# Altium schematic symbol library DIY-USB Led Controller.SCHLIB: 40 symbols
Pins are listed as number, name and electrical type; pins without a type are passive.

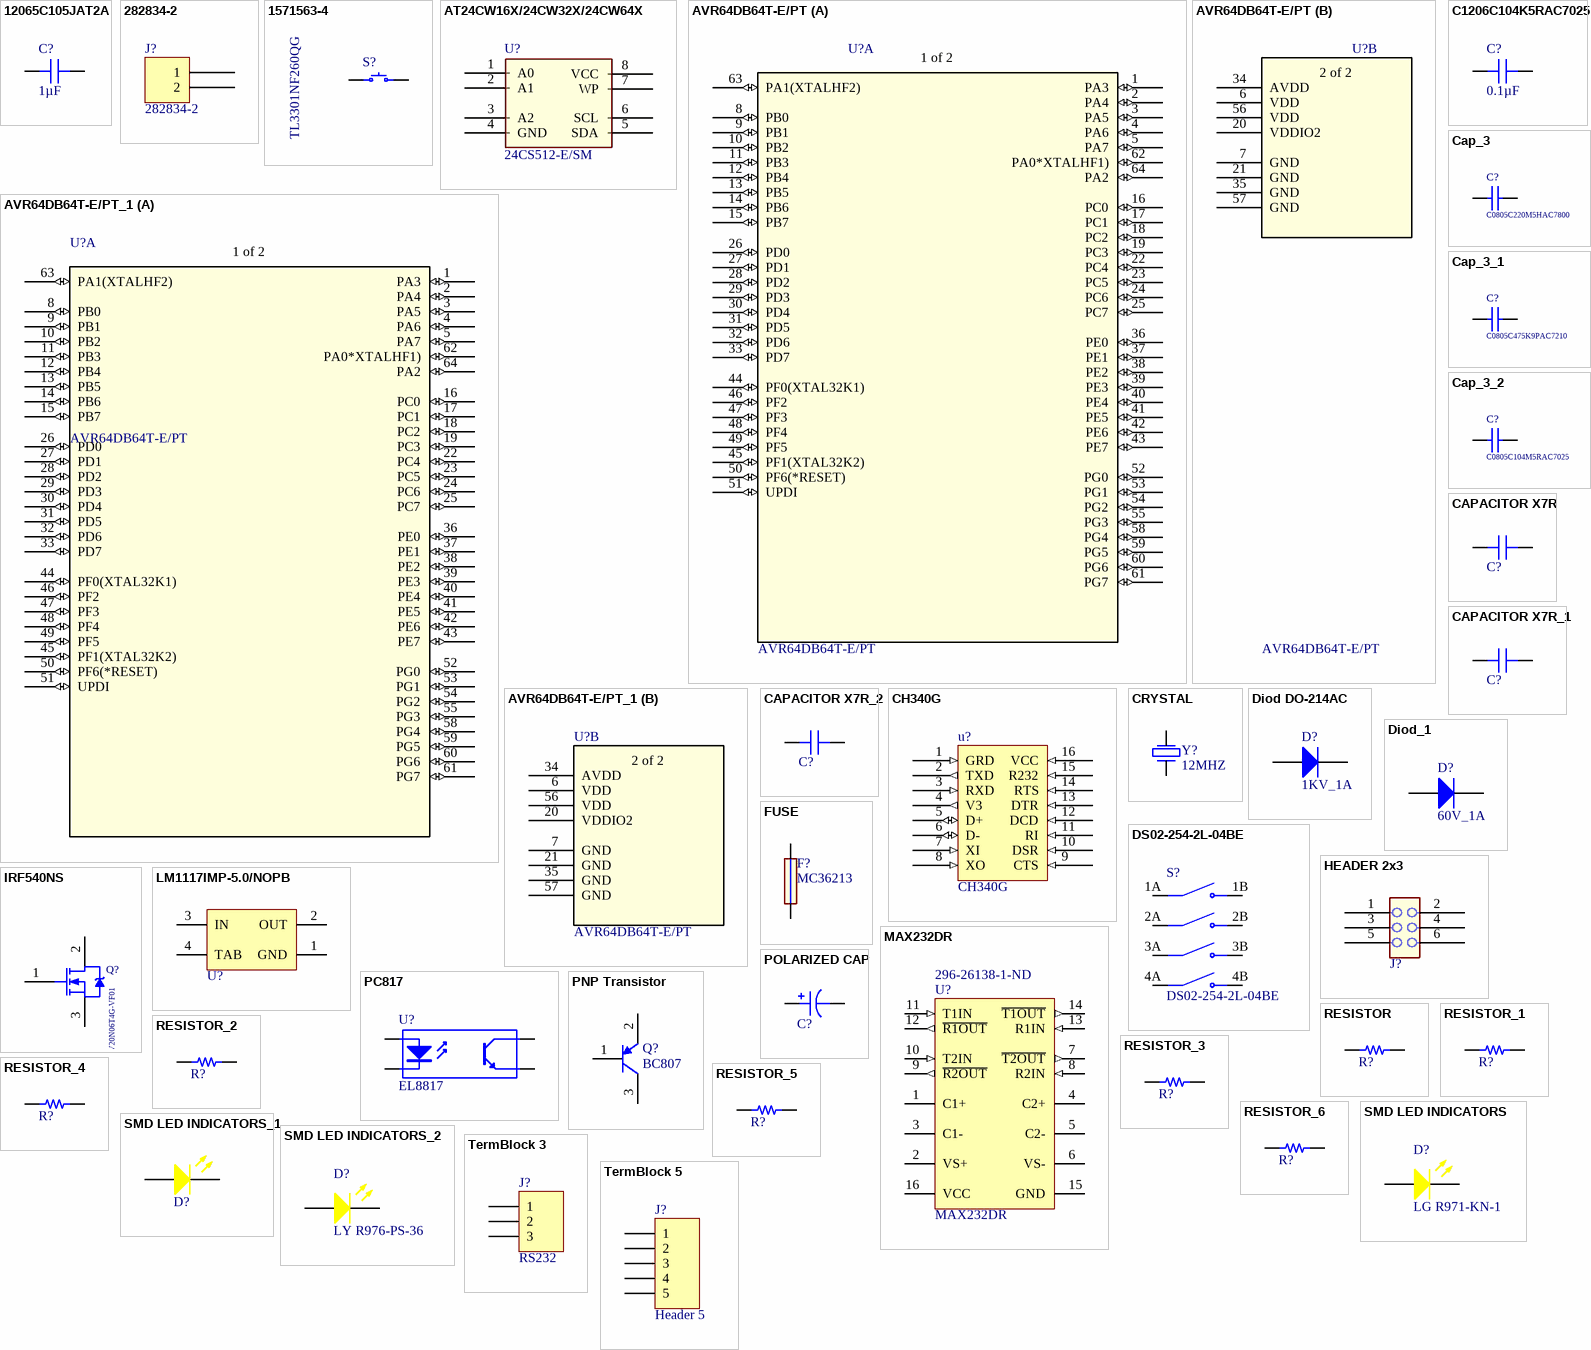
[diagram p0: symbols 12065C105JAT2A to TermBlock 5]

## 12065C105JAT2A
designator C?, comment value 1µF  (hidden comment: C0805C105K5RACAUTO)
1 µF ±10% 50V Ceramic Capacitor X7R 0805 (2012 Metric); Part Number: 12065C105JAT2A; Manufacturer: AVX Corporation; Tolerance: ±5%; Applications: General Purpose; Capacitance: 1µF; ComponentLink1Description: Datasheet; ComponentLink1URL: http://datasheets.avx.com/X7RDielectric.pdf; ComponentLink2Description: DigiKey Link; ComponentLink2URL: http://digikey.com/product-detail/en/avx-corporation/12065C105JAT2A/478-10884-1-ND/7536453; Device Package: 1206 (3216 Metric); LastUpdated: 1/21/2020 12:03:49 AM; Lifecycle Status: Active; Minimum Order: 1; Mounting Type: Surface Mount, MLCC; Operating Temperature: -55°C ~ 125°C; Package / Case: 1206 (3216 Metric); Packaging: TapeAndReel; PartId: 19654; Part Status: Active; Price: 0.15; Series: -; Size / Dimension: 0.126" L x 0.063" W (3.20mm x 1.60mm); Supplier 1: DigiKey; Supplier Part Number 1: 478-10884-1-ND; Temperature Coefficient: X7R; Thickness (Max): 0.070" (1.78mm); Voltage - Rated: 50V
footprint CAP 1206_3216 - 1.8MM
footprint CAP SMD 0805
pins: 1, 2

## 282834-2
designator J?
TERM BLOCK PLUG 2POS STR 5.08MM; Manufacturer: TE Connectivity AMP Connectors; Current: 10A; Mating Orientation: Horizontal with Board; Number of Levels: 1; Pitch: 0.100" (2.54mm); Positions Per Level: 2; Voltage: 150V; Wire Gauge: 16-30 AWG; Wire Termination: Screw - Rising Cage Clamp; Part Number: 282834-2; Color: Green; ComponentLink1Description: Datasheet; ComponentLink1URL: https://www.te.com/commerce/DocumentDelivery/DDEController?Action=srchrtrv&DocNm=282834&DocType=Customer+Drawing&DocLang=English; ComponentLink2Description: DigiKey Link; ComponentLink2URL: http://digikey.com/product-detail/en/te-connectivity-amp-connectors/282834-2/A98333-ND/1150135; LastUpdated: 1/15/2020 4:15:38 AM; Lifecycle Status: Active; Minimum Order: 1; Mounting Type: Through Hole; Packaging: Bulk; Part Status: Active; Price: 0.88; Series: Buchanan; Supplier 1: DigiKey; Supplier Part Number 1: A98333-ND
footprint TE 282834-2
footprint CONN. 2
footprint CONN. 2
pins: 1, 2

## 1571563-4
designator S?, comment TL3301NF260QG
SWITCH TACTILE SPST-NO 0.05A 12V; Part Number: 1571563-4; Manufacturer: TE Connectivity ALCOSWITCH Switches; Actuator Height off PCB, Vertical: 5.00mm; Actuator Orientation: Top Actuated; Actuator Type: Standard; Contact Rating @ Voltage: 0.05A @ 24VDC; Illumination: Non-Illuminated; Operating Force: 260gf; Outline: 6.00mm x 6.00mm; Switch Function: Off-Mom; Circuit: SPST-NO; ComponentLink1Description: Datasheet; ComponentLink1URL: https://www.te.com/commerce/DocumentDelivery/DDEController?Action=srchrtrv&DocNm=1308111-1_SWITCHES_CORE_PROGRAM_CATALOG&DocType=CS&DocLang=English; ComponentLink2Description: DigiKey Link; ComponentLink2URL: http://digikey.com/product-detail/en/te-connectivity-alcoswitch-switches/1571563-4/450-2055-1-ND/4569745; LastUpdated: 2/4/2020 2:40:00 PM; Lifecycle Status: Active; Minimum Order: 1; Mounting Type: Surface Mount; Operating Temperature: -35°C ~ 85°C; Packaging: TapeAndReel; Part Status: Active; Price: 0.16; Series: FSMJSMA; Supplier 1: DigiKey; Supplier Part Number 1: 450-2055-1-ND; Termination Style: Gull Wing
footprint TE FSM4JSMA
footprint AP8-00137
footprint Tactile Switche (SWITCH TACTILE SPST-NO 0.05A 12V  6mm*6mm)
pins: 1, 2, 3, 4

## AT24CW16X/24CW32X/24CW64X
designator U?, comment 24CS512-E/SM
EEPROM Memory IC 512Kb (64K x 8) I²C 3.4 MHz 400 ns 8-SOIJ
footprint 21-0041B_8
pins: 1 A0, 2 A1, 3 A2 (power), 4 GND (power), 5 SDA, 6 SCL, 7 WP, 8 VCC (power)

## AVR64DB64T-E/PT
designator U?
AVR series Microcontroller IC 8-Bit 24MHz 64KB (64K x 8) FLASH 64-TQFP (10x10) /; Mfr_Name: Microchip; Copyright: Copyright (C) 2022 Ultra Librarian. All rights reserved.; Manufacturer_Part_Number: AVR64DB64T-E/PT; RefDes: RefDes; Type: DEV
footprint 64-TQFP (SOIC, 4-Leads, Body 4,60x6,50mm, Pitch 1,27mm, IPC Medium Density)
part A pins: 1 PA3 (io), 2 PA4 (io), 3 PA5 (io), 4 PA6 (io), 5 PA7 (io), 8 PB0 (io), 9 PB1 (io), 10 PB2 (io), 11 PB3 (io), 12 PB4 (io), 13 PB5 (io), 14 PB6 (io), 15 PB7 (io), 16 PC0 (io), 17 PC1 (io), 18 PC2 (io), 19 PC3 (io), 22 PC4 (io), 23 PC5 (io), 24 PC6 (io), 25 PC7 (io), 26 PD0 (io), 27 PD1 (io), 28 PD2 (io), 29 PD3 (io), 30 PD4 (io), 31 PD5 (io), 32 PD6 (io), 33 PD7 (io), 36 PE0 (io), 37 PE1 (io), 38 PE2 (io), 39 PE3 (io), 40 PE4 (io), 41 PE5 (io), 42 PE6 (io), 43 PE7 (io), 44 PF0(XTAL32K1) (io), 45 PF1(XTAL32K2) (io), 46 PF2 (io), 47 PF3 (io), 48 PF4 (io), 49 PF5 (io), 50 PF6(*RESET) (io), 51 UPDI (io), 52 PG0 (io), 53 PG1 (io), 54 PG2 (io), 55 PG3 (io), 58 PG4 (io), 59 PG5 (io), 60 PG6 (io), 61 PG7 (io), 62 PA0*XTALHF1) (io), 63 PA1(XTALHF2) (io), 64 PA2 (io)
part B pins: 6 VDD (power), 7 GND, 20 VDDIO2 (power), 21 GND, 34 AVDD (power), 35 GND, 56 VDD (power), 57 GND
part A text: 1 of 2
part B text: 2 of 2

## AVR64DB64T-E/PT_1
designator U?, comment AVR64DB64T-E/PT
No Description Available; Mfr_Name: Microchip; Copyright: Copyright (C) 2022 Ultra Librarian. All rights reserved.; Manufacturer_Part_Number: AVR64DB64T-E/PT; RefDes: RefDes; Type: DEV
footprint 64-TQFP (SOIC, 4-Leads, Body 4,60x6,50mm, Pitch 1,27mm, IPC Medium Density)
part A pins: 1 PA3 (io), 2 PA4 (io), 3 PA5 (io), 4 PA6 (io), 5 PA7 (io), 8 PB0 (io), 9 PB1 (io), 10 PB2 (io), 11 PB3 (io), 12 PB4 (io), 13 PB5 (io), 14 PB6 (io), 15 PB7 (io), 16 PC0 (io), 17 PC1 (io), 18 PC2 (io), 19 PC3 (io), 22 PC4 (io), 23 PC5 (io), 24 PC6 (io), 25 PC7 (io), 26 PD0 (io), 27 PD1 (io), 28 PD2 (io), 29 PD3 (io), 30 PD4 (io), 31 PD5 (io), 32 PD6 (io), 33 PD7 (io), 36 PE0 (io), 37 PE1 (io), 38 PE2 (io), 39 PE3 (io), 40 PE4 (io), 41 PE5 (io), 42 PE6 (io), 43 PE7 (io), 44 PF0(XTAL32K1) (io), 45 PF1(XTAL32K2) (io), 46 PF2 (io), 47 PF3 (io), 48 PF4 (io), 49 PF5 (io), 50 PF6(*RESET) (io), 51 UPDI (io), 52 PG0 (io), 53 PG1 (io), 54 PG2 (io), 55 PG3 (io), 58 PG4 (io), 59 PG5 (io), 60 PG6 (io), 61 PG7 (io), 62 PA0*XTALHF1) (io), 63 PA1(XTALHF2) (io), 64 PA2 (io)
part B pins: 6 VDD (power), 7 GND, 20 VDDIO2 (power), 21 GND, 34 AVDD (power), 35 GND, 56 VDD (power), 57 GND
part A text: 1 of 2
part B text: 2 of 2

## C1206C104K5RAC7025
designator C?, comment value 0.1µF  (hidden comment: C0805C104M5RAC7025)
0.1 µF ±20% 50V Ceramic Capacitor X7R 0805 (2012 Metric); Part Number: C1206C104K5RAC7025; Manufacturer: KEMET; Tolerance: ±10%; Applications: Bypass, Decoupling; Capacitance: 0.1µF; ComponentLink1Description: Datasheet; ComponentLink1URL: https://api.kemet.com/component-edge/download/datasheet/C1206C104K5RAC7025.pdf; ComponentLink2Description: DigiKey Link; ComponentLink2URL: http://digikey.com/product-detail/en/kemet/C1206C104K5RAC7025/399-7356-1-ND/5322076; Device Package: 1206 (3216 Metric); LastUpdated: 1/21/2020 12:03:23 AM; Lifecycle Status: Active; Minimum Order: 1; Mounting Type: Surface Mount, MLCC; Operating Temperature: -55°C ~ 125°C; Package / Case: 1206 (3216 Metric); Packaging: TapeAndReel; PartId: 18895; Part Status: Active; Price: 0.02; Series: SMD Comm X7R; Size / Dimension: 0.126" L x 0.063" W (3.20mm x 1.60mm); Supplier 1: DigiKey; Supplier Part Number 1: 399-7356-1-ND; Temperature Coefficient: X7R; Thickness (Max): 0.035" (0.88mm); Voltage - Rated: 50V
footprint CAP 1206_3216 - 1.0MM
footprint CAP SMD 0805
pins: 1, 2

## Cap_3
designator C?, comment C0805C220M5HAC7800
22 pF ±20% 50V Ceramic Capacitor X8R 0805 (2012 Metric); Value: 0.1uF; Published: 8-Jun-2000; LatestRevisionDate: 17-Jul-2002; LatestRevisionNote: Re-released for DXP Platform.; PackageReference: RAD-0.3; Publisher: Altium Limited; PackageDescription: Radial Cap, Thru-Hole; 2 Leads; 0.3 in Pin Spacing
simulation model CAP (Capacitor)
signal-integrity model Cap
footprint CAP SMD 0805
pins: 1, 2

## Cap_3_1
designator C?, comment C0805C475K9PAC7210
4.7 µF ±10% 6.3V Ceramic Capacitor X5R 0805 (2012 Metric); Value: 0.1uF; Published: 8-Jun-2000; LatestRevisionDate: 17-Jul-2002; LatestRevisionNote: Re-released for DXP Platform.; PackageReference: RAD-0.3; Publisher: Altium Limited; PackageDescription: Radial Cap, Thru-Hole; 2 Leads; 0.3 in Pin Spacing
simulation model CAP (Capacitor)
signal-integrity model Cap
footprint CAP SMD 0805
pins: 1, 2

## Cap_3_2
designator C?, comment C0805C104M5RAC7025
0.1 µF ±20% 50V Ceramic Capacitor X7R 0805 (2012 Metric); Value: 0.1uF; Published: 8-Jun-2000; LatestRevisionDate: 17-Jul-2002; LatestRevisionNote: Re-released for DXP Platform.; PackageReference: RAD-0.3; Publisher: Altium Limited; PackageDescription: Radial Cap, Thru-Hole; 2 Leads; 0.3 in Pin Spacing
simulation model CAP (Capacitor)
signal-integrity model Cap
footprint CAP SMD 0805
pins: 1, 2

## CAPACITOR X7R
designator C?, comment C0805C475K9PAC7210  (value not drawn)
4.7 µF ±10% 6.3V Ceramic Capacitor X5R 0805 (2012 Metric)
footprint CAP SMD 0805
pins: 1, 2

## CAPACITOR X7R_1
designator C?, comment C0805C104M5RAC7025  (value not drawn)
0.1 µF ±20% 50V Ceramic Capacitor X7R 0805 (2012 Metric)
footprint CAP SMD 0805
pins: 1, 2

## CAPACITOR X7R_2
designator C?, comment C0805C104M5RAC7025  (value not drawn)
0.1 µF ±20% 50V Ceramic Capacitor X7R 0805 (2012 Metric)
footprint CAP SMD 0805
pins: 1, 2

## CH340G
designator u?
CH340G USB TO SERIAL (TTL) IC
footprint 16-SOIC
pins: 1 GRD (in), 2 TXD (out), 3 RXD (in), 4 V3 (out), 5 D+ (io), 6 D- (io), 7 XI (in), 8 XO (in), 9 CTS (in), 10 DSR (in), 11 RI (in), 12 DCD (in), 13 DTR (in), 14 RTS (in), 15 R232 (in), 16 VCC (in)

## CRYSTAL
designator Y?, comment 12MHZ
12 MHz ±30ppm Crystal 20pF 50 Ohms HC-49/US; PartGroup: Frequency devices,Crystals,THM; Manufacturer: TXC Corporation; MPN: 9B08100001-A1; AN: A07-0123; Value: 8.192MHz; ComponentStatus: 'New (not verified)'; Status: Active; Verified by: Sveinung Helgeland; Verified date: 2006-02-17; Height: 3.29999995231628; FootprintStatus: 'New (Not verified)'
footprint AP7-00085
pins: 1, 2

## Diod DO-214AC
designator D?, comment 1KV_1A
DIODE GEN PURP 1KV 1A SMA  S1M; Published: 8-Jun-2000; LatestRevisionDate: 17-Jul-2002; LatestRevisionNote: Re-released for DXP Platform.; PackageVersion: Sep-1996; PackageReference: SMC; Publisher: Altium Limited; PackageDescription: DO-214-AB/SMC; 2 C-Bend Leads; Body 7.9 x 5.9 mm, inc. leads (LxW); Code_JEDEC: DO-214-AB
footprint SMC (DO-214-AB/SMC; 2 C-Bend Leads; Body 7.9 x 5.9 mm, inc. leads (LxW))
simulation model DIODE (Diode)
signal-integrity model Diode
footprint Diod DO-214AC (DO-214-AA/SMB; 2 C-Bend Leads; Body 5.3 x 3.6 mm, inc. leads (LxW))
pins: 1 CATHODE, 2 ANODE

## Diod_1
designator D?, comment 60V_1A
DIODE SCHOTTKY 60V 1A SOD123; Published: 8-Jun-2000; LatestRevisionDate: 17-Jul-2002; LatestRevisionNote: Re-released for DXP Platform.; PackageVersion: Sep-1996; PackageReference: SMC; Publisher: Altium Limited; PackageDescription: DO-214-AB/SMC; 2 C-Bend Leads; Body 7.9 x 5.9 mm, inc. leads (LxW); Code_JEDEC: DO-214-AB
simulation model DIODE (Diode)
signal-integrity model Diode
footprint DO-213AC, MINI-MELF, SOD-80 (Diode Standard 100V 200mA Surface Mount SOD-80)
footprint SMC (DO-214-AB/SMC; 2 C-Bend Leads; Body 7.9 x 5.9 mm, inc. leads (LxW))
footprint SOD-123- (SOD-123; 2 Leads; Body 2.7 x 1.6 mm, (LxW))
pins: 1 CATHODE, 2 ANODE

## DS02-254-2L-04BE
designator S?
Package: None; Price: None; Value: *; MP: DS02-254-2L-04BE; Availability: Unavailable
footprint SW_DS02-254-2L-04BE
pins: 1A COM1, 1B NO1, 2A COM2, 2B NO2, 3A COM3, 3B NO3, 4A COM4, 4B NO4

## FUSE
designator F?, comment value MC36213  (hidden comment: Farnell no: 1861197)
Resetable PTC fuse, Ih = 0.5A, It = 1.0A, 0805 package; PartGroup: Resistors,Resettable fuses,SMD; Manufacturer: Multicomp; AN: A02-0622; TemperatureRange: -40°C to + 85°C; Height: 1,25; MPN: MC36213
footprint AP2-00002
pins: 1, 2

## HEADER 2x3
designator J?  (value not drawn)
2x3 pin header, 2.54 mm pitch, THM; PartGroup: Mechanical devices,Connectors,Pin headers; Manufacturer: SAMTEC; AN: A08-0538; Value: MTSW-103-08-L-D-276; TemperatureRange: max. 125 degrees; Height: 9,60000038146973; MPN: MTSW-103-08-L-D-276
footprint 2*3PIN_HEAD_2.54
pins: 1, 2, 3, 4, 5, 6
1 alternate drawing of the same symbol

## IRF540NS
designator Q?, comment NTDV20N06T4G-VF01
MOSFET N-CH 60V 20A DPAK /; Manufacture: ON Semiconductor; Manufacture Part Number: IRF540N_R4942; Published: 8-Jun-2000; LatestRevisionDate: 20-Nov-2009; LatestRevisionNote: IPC-7351 Footprint Added.; DatasheetVersion: May-1998; PackageReference: TO-220AB; Publisher: Altium Limited; PackageDescription: TO, Thru-Hole, Vertical, Heatsink Mounted; 3 In-Line Leads; Pitch 2.54 mm; ComponentLink1Description: Manufacturer Link; ComponentLink1URL: http://www.irf.com/; ComponentLink2Description: Datasheet; ComponentLink2URL: http://www.irf.com/product-info/datasheets/data/irf540ns.pdf; Supplier: Local; Supplier Part Number: IRF540N
simulation model IRF540NS (SUBCKT)
footprint TO-220AB-H
footprint DPAK228P991X238-3N
pins: 1 G, 2 D, 3 S

## LM1117IMP-5.0/NOPB
designator U?  (value not drawn)
800mA Low-Dropout Linear Regulator, 4-pin SOT-223, Pb-Free; Manufacturer: National Semiconductor; PackageTopMarking: XYTT*N06B; PowerWise: N; CompType: LDO IC; High-Reliability: Y; DatasheetVersion: Apr-2006; PackageVersion: revB, Apr-2003; PackageReference: MP04A; PackageDescription: Molded SOT-223, 6.50 x 3.56 x 1.6mm Body, 4 Lead, 2.3mm Pitch; PartNumber: LM1117IMP-5.0/NOPB; RoHS: Y; PinCount: 4; Code_JEDEC: TO-261-AA; Code_IPC: SOT223-4; ComponentLink1Description: Manufacturer URL; ComponentLink1URL: http://www.national.com/; ComponentLink2Description: LM1117 Datasheet; ComponentLink2URL: http://www.national.com/ds/LM/LM1117.pdf; ComponentLink3Description: LM1117 Web Page; ComponentLink3URL: http://www.national.com/pf/LM/LM1117.html; ComponentLink4Description: MP04A Package Page; ComponentLink4URL: http://www.national.com/packaging/folders/mp04a.html
footprint MP04A_N (SOT223, 4-Leads, Body 6.5x3.5mm, Pitch 2.3mm, Lead Span 7mm, IPC Medium Density)
footprint MP04A_L (SOT223, 4-Leads, Body 6.5x3.5mm, Pitch 2.3mm, Lead Span 7mm, IPC High Density)
footprint MP04A_M (SOT223, 4-Leads, Body 6.5x3.5mm, Pitch 2.3mm, Lead Span 7mm, IPC Low Density)
pins: 1 GND (power), 2 OUT (power), 3 IN (power), 4 TAB (power)

## MAX232DR
designator U?  Supplier Part Number 1: 296-26138-1-ND
IC TRANSCEIVER FULL 2/2 16SOIC; Manufacturer 1: Texas Instruments; Manufacturer Part Number 1: MAX232ECDR; SubFamily: RS-232; Drivers Per Package: 2; Supply Voltage(s)(V): 5; ESD HBM(kV): +/-2; ICC(Max)(mA): 10; Single Supply: TRUE; Nominal Supply Current: 10mA; Data Rate: 120Kbps; Operating Supply Voltage: 5V; Min Supply Voltage: 4.5V; Max Supply Voltage: 5.5V; Logic Function: Transceiver,Receiver; Number of Transceivers: 1; Number of I/Os: 8; Propagation Delay: 0.5us; Simplex/Duplex: Full Duplex; DatasheetVersion: SLLS047L; PackageVersion: revM, Jun-2011; PackageReference: D16; PackageDescription: 16-Pin Plastic Small Outline Integrated Circuit, 9.9 x 3.9 mm, Pitch 1.27 mm Pitch; Receivers Per Package: 2; RS-232: TRUE; ComponentLink1Description: Manufacturer URL; ComponentLink1URL: www.ti.com; ComponentLink2Description: Datasheet; ComponentLink2URL: http://www.ti.com/general/docs/lit/getliterature.tsp?genericPartNumber=MAX232&fileType=pdf; ComponentLink3Description: Package Specification; ComponentLink3URL: http://www.ti.com/litv/pdf/mpds178g; Supplier 1: Digi-Key; Stock 1: 2544; Pricing 1: 1=1.09000, 10=0.97600, 25=0.92680, 100=0.71170, 250=0.62892, 500=0.59580, 1000=0.46340 (USD); RoHS: Yes; Mount: Surface Mount; Case/Package: D; Number of Pins: 16; Min Operating Temperature: -40°C; Max Operating Temperature: 85°C; Packaging: Tape and Reel; Number of Drivers: 2; Package Quantity: 1; Number of Receivers: 2; Number of Transmitters: 2; Radiation Hardening: No; REACH SVHC: No SVHC; Lead Free: Lead Free; ComponentLink4URL: https://datasheet.ciiva.com/4783/slls723b-121575-4783681.pdf?src-supplier=Mouser; ComponentLink4Description: https://datasheet.ciiva.com/4783/slls723b-121575-4783681.pdf?src-supplier=Mouser; ComponentLink5URL: https://datasheet.ciiva.com/41461/001187142-da-01-en-ic-dual-rs232-esd-max232ecdr-soic-16-tid-41461900.pdf?src-supplier=Conrad; ComponentLink5Description: https://datasheet.ciiva.com/41461/001187142-da-01-en-ic-dual-rs232-esd-max232ecdr-soic-16-tid-41461900.pdf?src-supplier=Conrad; ComponentLink6URL: https://datasheet.ciiva.com/1701/max232e-1701542.pdf?src-supplier=Digi-Key; ComponentLink6Description: https://datasheet.ciiva.com/1701/max232e-1701542.pdf?src-supplier=Digi-Key; ComponentLink7URL: https://datasheet.ciiva.com/14427/slls723b-14427158.pdf?src-supplier=Avnet; ComponentLink7Description: https://datasheet.ciiva.com/14427/slls723b-14427158.pdf?src-supplier=Avnet; ComponentLink8URL: https://datasheet.ciiva.com/1701/max232e-1701543.pdf?src-supplier=Digi-Key; ComponentLink8Description: https://datasheet.ciiva.com/1701/max232e-1701543.pdf?src-supplier=Digi-Key; ComponentLink9URL: https://datasheet.ciiva.com/1701/max232e-1701544.pdf?src-supplier=Digi-Key; ComponentLink9Description: https://datasheet.ciiva.com/1701/max232e-1701544.pdf?src-supplier=Digi-Key; ComponentLink10URL: https://datasheet.ciiva.com/46397/1864431-46397208.pdf?src-supplier=Element14; ComponentLink10Description: https://datasheet.ciiva.com/46397/1864431-46397208.pdf?src-supplier=Element14; ComponentLink11URL: https://datasheet.ciiva.com/15224/getdatasheetpartid-82083-15224955.pdf?src-supplier=Verical; ComponentLink11Description: https://datasheet.ciiva.com/15224/getdatasheetpartid-82083-15224955.pdf?src-supplier=Verical
footprint SOIC 16
pins: 1 C1+, 2 VS+ (power), 3 C1-, 4 C2+, 5 C2-, 6 VS- (power), 7 ~{T2OUT} (out), 8 R2IN (in), 9 ~{R2OUT} (out), 10 T2IN (in), 11 T1IN (in), 12 ~{R1OUT} (out), 13 R1IN (in), 14 ~{T1OUT} (out), 15 GND (power), 16 VCC (power)

## PC817
designator U?, comment EL8817
Optoisolator Transistor Output 5000Vrms 1 Channel 4-SMD
footprint DIP-4 GULLWING (DIP; 4 Leads; Row Spacing 7.62 mm; Pitch 2.54 mm)
pins: 1 A "Anode", 2 K "Cathode", 3 E "Emitter", 4 C "Collector"

## PNP Transistor
designator Q?, comment BC807
TRANS PNP 45V 0.5A SOT-23; Published: 8-Jun-2000; LatestRevisionDate: 29-May-2009; LatestRevisionNote: IPC-7351 Footprint Added.; PackageVersion: Aug-1999; PackageReference: SOT-23B; Publisher: Altium Limited; PackageDescription: 3-Pin SOT-23 Package 0.95 mm Pitch, 2.4 mm Lead Span
simulation model PNP
signal-integrity model PNP
footprint SOT-23 (SOT23, 3-Leads, Body 2.9x1.3mm, Pitch 0.95mm, Lead Span 2.4mm, IPC Low Density)
pins: 1 B, 2 E, 3 C

## POLARIZED CAP
designator C?, comment UVY1C471MPD  (value not drawn)
CAP ALUM 470UF 20% 16V RADIAL /
footprint Cap 6.3x11 THT
pins: 1, 2

## RESISTOR
designator R?, comment 330R  (value not drawn)
RES SMD 330 OHM 1% 1/4W 0805
footprint RES SMD 0805
pins: 1, 2

## RESISTOR_1
designator R?, comment 10K  (value not drawn)
RES SMD 10K OHM 1% 1/4W 0805
footprint RES SMD 0805
pins: 1, 2

## RESISTOR_2
designator R?, comment 1K  (value not drawn)
RES SMD 1K OHM 1% 1/4W 0805
footprint RES SMD 0805
pins: 1, 2

## RESISTOR_3
designator R?, comment 10K  (value not drawn)
RES SMD 10K OHM 1% 1/4W 0805
footprint SMD 1206 RES
footprint SMD 1210 RES
footprint SMD 0805 RES
footprint RES SMD 0805
pins: 1, 2

## RESISTOR_4
designator R?, comment 48R  (value not drawn)
RES SMD 48 OHM 1% 1/4W 0805
footprint SMD 1206 RES
footprint SMD 1210 RES
footprint SMD 0805 RES
footprint SMD 0805 RES
footprint RES SMD 0805
pins: 1, 2

## RESISTOR_5
designator R?, comment 10K  (value not drawn)
RES SMD 10K OHM 1% 1/4W 0805
footprint SMD 1206 RES
footprint SMD 1210 RES
footprint SMD 0805 RES
footprint SMD 0805 RES
footprint RES SMD 0805
pins: 1, 2

## RESISTOR_6
designator R?, comment 1K  (value not drawn)
RES SMD 1K OHM 1% 1/4W 0805
footprint SMD 1206 RES
footprint SMD 1210 RES
footprint SMD 0805 RES
footprint SMD 0805 RES
footprint RES SMD 0805
pins: 1, 2

## SMD LED INDICATORS
designator D?, comment LG R971-KN-1
LED GREEN DIFFUSED 0805 SMD /
footprint LED 0805
pins: 1 Cathode, 2 Anode

## SMD LED INDICATORS_1
designator D?, comment LS R976-NR-1  (value not drawn)
LED RED DIFFUSED 0805 SMD /
footprint LED 0805
pins: 1 Cathode, 2 Anode

## SMD LED INDICATORS_2
designator D?, comment LY R976-PS-36
LED YELLOW DIFFUSED 0805 SMD /
footprint LED 0805
pins: 1 Cathode, 2 Anode

## TermBlock 3
designator J?, comment RS232
3 pin term block; LatestRevisionDate: 17-Jul-2002; LatestRevisionNote: Re-released for DXP Platform.; Publisher: Altium Limited
footprint 3 TERM BLOCK PLUGGABLE (TERM BLOCK HDR 3POS 90DEG 5MM)
footprint CONN. 3
pins: 1, 2, 3

## TermBlock 5
designator J?, comment Header 5
5 Position Terminal Block Header, Male Pins, Shrouded (2 Side) 0.197" (5.00mm) 90°, Right Angle - Through Hole; LatestRevisionDate: 17-Jul-2002; LatestRevisionNote: Re-released for DXP Platform.; Publisher: Altium Limited
footprint CONN. 5
pins: 1, 2, 3, 4, 5

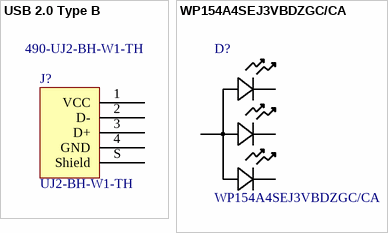
[diagram p1: symbols USB 2.0 Type B to WP154A4SEJ3VBDZGC/CA]

## USB 2.0 Type B
designator J?, comment UJ2-BH-W1-TH  Supplier Part Number 1: 490-UJ2-BH-W1-TH
USB-B (USB TYPE-B) USB 2.0 Receptacle Connector 4 Position Through Hole, Right Angle /; Supplier 1: Mouser
footprint FCI USB 61729-1011BLF
pins: 1 VCC, 2 D-, 3 D+, 4 GND, S Shield

## WP154A4SEJ3VBDZGC/CA
designator D?
5mm RGB Tri-Color Round Lamp; Mfr_Name: Kingbright; Type: DEV; Copyright: Copyright (C) 2022 Ultra Librarian. All rights reserved.; Manufacturer_Part_Number: WP154A4SEJ3VBDZGC/CA; Digi-Key_Part_Number_1: 754-2153-ND; Digi-Key_Part_Number_2: 754-2153-NDL; RefDes: RefDes
footprint LED_RGB_5mm
pins: 1, 2, 3, 4